# Altium schematic symbol library CWF-5.SchLib: 1 symbol
Pins are listed as number, name and electrical type; pins without a type are passive.

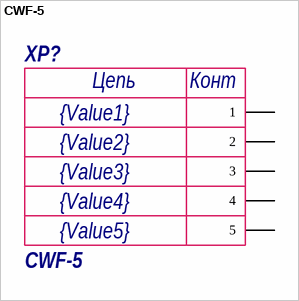
[diagram p0: symbol CWF-5]

## CWF-5
designator XP?  value CWF-5  Value1: {Value1}  Value2: {Value2}  Value3: {Value3}  Value4: {Value4}  Value5: {Value5}  (hidden comment: *)
Manufacturer: JST; Notice: Вилка штырьевая 5 пинов, шаг 2мм; Rate: 100В, 2А; Datasheet: https://cdn.promelec.ru/upload/items/2020/05/25/ePH-JST_.pdf; Shop: https://www.promelec.ru/product/362481/
pins: 1, 2, 3, 4, 5
text: Цепь; Конт